# Altium schematic symbol library RPSLib_Opto.SchLib: 7 symbols
Pins are listed as number, name and electrical type; pins without a type are passive.

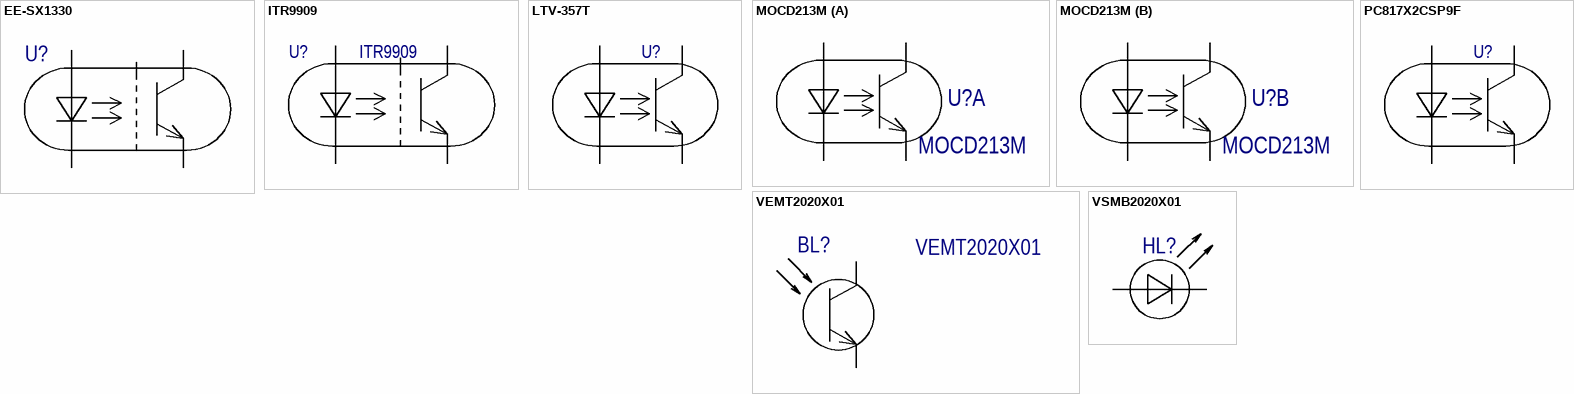
[diagram p0: symbols EE-SX1330 to VSMB2020X01]

## EE-SX1330
designator U?  (value not drawn)
Photointerrupter Transmissive Phototransistor 4-Pin SMD T/R; Manufacturer: Omron; Supplier 1: Digi-Key; Manufacturer Part Number: EE-SX1330; RoHS: No; Category: Optical Sensors; Stock 1: 50386; Pricing 1: 1=1,46000, 5=1,40400, 10=1,14100, 25=0,98320, 50=0,85140, 100=0,77250, 500=0,64958 (USD); ComponentLink1URL: https://media.digikey.com/pdf/Data%20Sheets/Omron%20PDFs/EE-SX1320,1330,4320_Intro.pdf?src-supplier=Digi-Key; ComponentLink1Description: https://media.digikey.com/pdf/Data%20Sheets/Omron%20PDFs/EE-SX1320,1330,4320_Intro.pdf?src-supplier=Digi-Key; ComponentLink2URL: https://omronfs.omron.com/en_US/ecb/products/pdf/en-ee_sx1330.pdf?src-supplier=Digi-Key; ComponentLink2Description: https://omronfs.omron.com/en_US/ecb/products/pdf/en-ee_sx1330.pdf?src-supplier=Digi-Key; Supplier Part Number 1: Z6364CT-ND
footprint EE_SX1330 (Photointerrupter)
pins: 1, 2, 3, 4

## ITR9909
designator U?
50mA DIP-4 Reflective Optical Interrupters ROHS; Manufacturer: Everlight; Description: OPTO INTERRUPTER; Manufacturer Part Number: ITR9909; RoHS: Yes; Pricing 1: 450=0,36393, 750=0,35881, 1200=0,34855, 2250=0,34087, 4500=0,32805, 22500=0,32036, 45000=0,31267 (USD); ComponentLink1URL: https://datasheet.ciiva.com/16442/itr9909-16442496.pdf?src-supplier=Future+Electronics; ComponentLink1Description: https://datasheet.ciiva.com/16442/itr9909-16442496.pdf?src-supplier=Future+Electronics; ComponentLink2URL: https://datasheet.ciiva.com/26812/getdatasheetpartid-248526-26812294.pdf?src-supplier=Verical; ComponentLink2Description: https://datasheet.ciiva.com/26812/getdatasheetpartid-248526-26812294.pdf?src-supplier=Verical; ComponentLink3URL: https://datasheet.ciiva.com/12090/itr9909-48794-12090455.pdf?src-supplier=Mouser; ComponentLink3Description: https://datasheet.ciiva.com/12090/itr9909-48794-12090455.pdf?src-supplier=Mouser; ComponentLink4URL: https://datasheet.ciiva.com/2824/itr9909-2824005.pdf?src-supplier=Digi-Key; ComponentLink4Description: https://datasheet.ciiva.com/2824/itr9909-2824005.pdf?src-supplier=Digi-Key; Supplier Part Number 1: C53399; Supplier 1: LCSC
footprint ITR9909 (DIP-4 Reflective Optical Interrupters)
pins: 1, 2, 3, 4

## LTV-357T
designator U?  (value not drawn)
OPTOISOLATOR 3.75KV TRANS 4-SOP; Manufacturer: Vishay Lite-On; Rise Time: 18000ns; Forward Voltage: 1.4V; Forward Current: 50mA; Collector Emitter Voltage (VCEO): 35V; Collector Emitter Saturation Voltage: 200mV; Number of Elements: 1; Power Dissipation: 170mW; Reverse Breakdown Voltage: 6V; Current Transfer Ratio: 600%; Input Type: DC; Max Output Voltage: 80V; Manufacturer Part Number: LTV-357T; RoHS: Yes; Category: Optocouplers; Stock 1: *; Pricing 1: *; Mount: Surface Mount; Case/Package: SMD/SMT; Number of Pins: 4; Min Operating Temperature: -55°C; Max Operating Temperature: 110°C; Fall Time: 18000ns; Max Power Dissipation: 170mW; Max Collector Current: 50mA; Max Input Current: 50mA; Number of Channels: 1; Packaging: Tape and Reel; Output Current per Channel: 50mA; Isolation Voltage: 3.75kV; Number of Circuits: 1; Output Voltage: 80V; Series: -; Collector-emitter Voltage-Max: 200mV; Isolation Voltage-Max: 3.75kV; Package Quantity: 750; Length: 3.6mm; Width: 4.4mm; Height: 2mm; Radiation Hardening: No; RoHS Compliant: Yes; Lead Free: Lead Free; ComponentLink1URL: https://datasheet.ciiva.com/2086/ltv-356t-2086199.pdf?src-supplier=Digi-Key; ComponentLink1Description: https://datasheet.ciiva.com/2086/ltv-356t-2086199.pdf?src-supplier=Digi-Key; ComponentLink2URL: https://datasheet.ciiva.com/11771/0900766b80de6af0-11771730.pdf?src-supplier=RSComponents; ComponentLink2Description: https://datasheet.ciiva.com/11771/0900766b80de6af0-11771730.pdf?src-supplier=RSComponents; ComponentLink3URL: https://datasheet.ciiva.com/16216/ltv-356t-16216247.pdf?src-supplier=Future+Electronics; ComponentLink3Description: https://datasheet.ciiva.com/16216/ltv-356t-16216247.pdf?src-supplier=Future+Electronics; ComponentLink4URL: https://datasheet.ciiva.com/15118/getdatasheetpartid-214494-15118908.pdf?src-supplier=Verical; ComponentLink4Description: https://datasheet.ciiva.com/15118/getdatasheetpartid-214494-15118908.pdf?src-supplier=Verical; ComponentLink5URL: https://datasheet.ciiva.com/2086/s-110-ltv-356t20140520-2086200.pdf?src-supplier=Digi-Key; ComponentLink5Description: https://datasheet.ciiva.com/2086/s-110-ltv-356t20140520-2086200.pdf?src-supplier=Digi-Key; ComponentLink6URL: https://datasheet.ciiva.com/2086/s-110-ltv-356t20140520-2086201.pdf?src-supplier=Digi-Key; ComponentLink6Description: https://datasheet.ciiva.com/2086/s-110-ltv-356t20140520-2086201.pdf?src-supplier=Digi-Key; ComponentLink7URL: https://datasheet.ciiva.com/12243/ltv-356tseries-1308-301539-12243030.pdf?src-supplier=Mouser; ComponentLink7Description: https://datasheet.ciiva.com/12243/ltv-356tseries-1308-301539-12243030.pdf?src-supplier=Mouser; Supplier 1: LCSC; Supplier Part Number 1: C119091
footprint SOP254P680X220-4N (SOP, 4-Leads, Body 3,80x4,40mm, Pitch 2,54mm, IPC Medium Density)
pins: 1, 2, 3, 4

## MOCD213M
designator U?
OPTOISO 2.5KV 2CH TRANS 8SOIC; Manufacturer: ON Semiconductor / Fairchild; Collector Emitter Voltage (VCEO): 400mV; Number of Channels: 2; Forward Voltage: 1.55V; Max Output Voltage: 70V; Output Current per Channel: 150mA; Max Power Dissipation: 250mW; Rise Time: 1.6us; Reverse Breakdown Voltage: 6V; Forward Current: 60mA; Fall Time: 2.2us; Input Current: 30mA; Supplier 1: Digi-Key; Manufacturer Part Number: MOCD213M; RoHS: Yes; Category: Optocouplers; Stock 1: 2278; Pricing 1: 1=1,10000, 10=0,89700, 100=0,55200, 500=0,46920, 1000=0,38640 (USD); Mount: Surface Mount; Case/Package: SOIC; Number of Pins: 8; Weight: 0.252g; Min Operating Temperature: -40°C; Max Operating Temperature: 100°C; Packaging: Rail/Tube; Package Quantity: 3000; Max Collector Current: 150mA; Collector Emitter Saturation Voltage: 400mV; Reverse Voltage (DC): 6V; Isolation Voltage: 2.5kV; Max Input Current: 60mA; Number of Elements: 2; Power Dissipation: 250mW; Voltage Rating (DC): 70V; Number of Circuits: 2; Length: 5.13mm; Height: 3.43mm; Width: 4.16mm; Radiation Hardening: No; REACH SVHC: No SVHC; Lead Free: Lead Free; ComponentLink1URL: https://datasheet.ciiva.com/15118/getdatasheetpartid-117305-15118684.pdf?src-supplier=Verical; ComponentLink1Description: https://datasheet.ciiva.com/15118/getdatasheetpartid-117305-15118684.pdf?src-supplier=Verical; ComponentLink2URL: https://datasheet.ciiva.com/8095/mocd213m-8095675.pdf?src-supplier=Avnet; ComponentLink2Description: https://datasheet.ciiva.com/8095/mocd213m-8095675.pdf?src-supplier=Avnet; ComponentLink3URL: https://datasheet.ciiva.com/26124/mocd213m-26124421.pdf?src-supplier=Avnet+Europe; ComponentLink3Description: https://datasheet.ciiva.com/26124/mocd213m-26124421.pdf?src-supplier=Avnet+Europe; Supplier Part Number 1: MOCD213M-ND
footprint SOIC127P590X350-8N (SOIC, 8-Leads, Body 4,88x3,91mm, Pitch 1,27mm, IPC Medium Density)
part A pins: 1, 2, 7, 8
part B pins: 3, 4, 5, 6

## PC817X2CSP9F
designator U?  (value not drawn)
SOP-4 Viso=5000Vrms VF(typ)=1.2V IF=50mA Vo=80V; Manufacturer: Sharp; Supplier 1: LCSC; Manufacturer Part Number: PC817X2CSP9F; RoHS: No; Pricing 1: *; Supplier Part Number 1: C66405
footprint SOP254P1020X400-4N (SOP, 4-Leads, Body 4,60x6,50mm, Pitch 2,54mm, IPC Medium Density)
pins: 1, 2, 3, 4

## VEMT2020X01
designator BL?
VISHAY SEMICONDUCTOR   VEMT2020X01   TRANSISTOR, PHOTO, NPN, 860NM, SMD; Lens Color: Black; Power Consumption: 100mW; Viewing Angle: 15°; Number of Channels: 1; Collector Emitter Voltage (VCEO): 7V; Max Collector Current: 50mA; Collector Emitter Breakdown Voltage: 20V; Collector Emitter Saturation Voltage: 400mV; Lens Style: Domed; Dark Current: 100nA; Supplier 1: Digi-Key; Manufacturer: Vishay; Manufacturer Part Number: VEMT2020X01; Stock 1: 215399; Pricing 1: 1=0,88000, 10=0,68700, 100=0,44180, 500=0,37306, 1000=0,29453, 2500=0,27489 (USD); RoHS: Yes; Mount: Surface Mount; Case/Package: SMD/SMT; Number of Pins: 2; Min Operating Temperature: -40°C; Max Operating Temperature: 100°C; Wavelength: 860nm; Package Quantity: 6000; Packaging: Tape and Reel; Max Power Dissipation: 100mW; Max Breakdown Voltage: 20V; Polarity: NPN; Number of Elements: 1; Power Dissipation: 100mW; Orientation: Top View; Length: 2.3mm; Height: 2.77mm; Width: 2.3mm; Radiation Hardening: No; REACH SVHC: Unknown; Lead Free: Lead Free; ComponentLink1URL: https://datasheet.ciiva.com/1249/485099-1249696.pdf?src-supplier=Element14; ComponentLink1Description: https://datasheet.ciiva.com/1249/485099-1249696.pdf?src-supplier=Element14; ComponentLink2URL: https://datasheet.ciiva.com/2820/vemt2000-2820704.pdf?src-supplier=Digi-Key; ComponentLink2Description: https://datasheet.ciiva.com/2820/vemt2000-2820704.pdf?src-supplier=Digi-Key; ComponentLink3URL: https://datasheet.ciiva.com/11772/0900766b80de2cdd-11772657.pdf?src-supplier=RSComponents; ComponentLink3Description: https://datasheet.ciiva.com/11772/0900766b80de2cdd-11772657.pdf?src-supplier=RSComponents; ComponentLink4URL: https://datasheet.ciiva.com/4697/vemt2000-79445-4697422.pdf?src-supplier=Mouser; ComponentLink4Description: https://datasheet.ciiva.com/4697/vemt2000-79445-4697422.pdf?src-supplier=Mouser; ComponentLink5URL: https://datasheet.ciiva.com/4270/vemt2000-4270344.pdf?src-supplier=Arrow; ComponentLink5Description: https://datasheet.ciiva.com/4270/vemt2000-4270344.pdf?src-supplier=Arrow; ComponentLink6URL: https://datasheet.ciiva.com/2820/vemt2000-2820705.pdf?src-supplier=Digi-Key; ComponentLink6Description: https://datasheet.ciiva.com/2820/vemt2000-2820705.pdf?src-supplier=Digi-Key; ComponentLink7URL: https://datasheet.ciiva.com/2820/vemt2000-2820706.pdf?src-supplier=Digi-Key; ComponentLink7Description: https://datasheet.ciiva.com/2820/vemt2000-2820706.pdf?src-supplier=Digi-Key; ComponentLink8URL: https://datasheet.ciiva.com/1250/485099-1250007.pdf?src-supplier=Element14; ComponentLink8Description: https://datasheet.ciiva.com/1250/485099-1250007.pdf?src-supplier=Element14; ComponentLink9URL: https://datasheet.ciiva.com/8271/vemt2000-8271036.pdf?src-supplier=Avnet; ComponentLink9Description: https://datasheet.ciiva.com/8271/vemt2000-8271036.pdf?src-supplier=Avnet; ComponentLink10URL: https://datasheet.ciiva.com/22696/485099-22696188.pdf?src-supplier=Element14; ComponentLink10Description: https://datasheet.ciiva.com/22696/485099-22696188.pdf?src-supplier=Element14; ComponentLink11URL: https://datasheet.ciiva.com/16511/vemt2000-16511768.pdf?src-supplier=Future+Electronics; ComponentLink11Description: https://datasheet.ciiva.com/16511/vemt2000-16511768.pdf?src-supplier=Future+Electronics; ComponentLink12URL: https://datasheet.ciiva.com/26165/vemt2000-26165182.pdf?src-supplier=Avnet+Europe; ComponentLink12Description: https://datasheet.ciiva.com/26165/vemt2000-26165182.pdf?src-supplier=Avnet+Europe; Supplier Part Number 1: VEMT2020X01CT-ND
footprint VEMT2020X01 (Phototransistor 2.3x2.3, 2.8 height)
pins: 1 C, 2 E

## VSMB2020X01
designator HL?  (value not drawn)
VISHAY   VSMB2020X01   Infrared Emitter, High Speed, 100 mA, 15 ns, 15 ns, 12 , 1.35 V, -40 C; Lens Style: Diffused,Colorless,Circular,Dome; Viewing Angle: 24°; Wavelength: 940nm; Forward Current: 100mA; Forward Voltage: 1.35V; Power Rating: 160mW; Number of LEDs: 1; Reverse Voltage: 5V; Rise Time: 15ns; Supplier 1: Digi-Key; Manufacturer: Vishay; Manufacturer Part Number: VSMB2020X01; Stock 1: 17283; Pricing 1: 1=0,83000, 10=0,64300, 100=0,41340, 500=0,34912, 1000=0,27563, 2500=0,25725 (USD); RoHS: Yes; Mount: Surface Mount; Case/Package: SMD/SMT; Number of Pins: 2; Contact Plating: Tin; Min Operating Temperature: -40°C; Max Operating Temperature: 85°C; Package Quantity: 1; Packaging: Tape and Reel; Power Dissipation: 160mW; Orientation: Top View; Operating Supply Voltage: 1.35V; Fall Time: 15ns; Test Current: 100mA; Number of Elements: 1; Max Power Dissipation: 160mW; Length: 2.3mm; Depth: 2.3mm; Radiation Hardening: No; Lead Free: Lead Free; REACH SVHC: Unknown; ComponentLink1URL: https://datasheet.ciiva.com/26218/vsmb2000-26218672.pdf?src-supplier=Avnet+Europe; ComponentLink1Description: https://datasheet.ciiva.com/26218/vsmb2000-26218672.pdf?src-supplier=Avnet+Europe; ComponentLink2URL: https://datasheet.ciiva.com/11769/0900766b80dea1a2-11769941.pdf?src-supplier=RSComponents; ComponentLink2Description: https://datasheet.ciiva.com/11769/0900766b80dea1a2-11769941.pdf?src-supplier=RSComponents; ComponentLink3URL: https://datasheet.ciiva.com/1234/485140-1234369.pdf?src-supplier=Element14; ComponentLink3Description: https://datasheet.ciiva.com/1234/485140-1234369.pdf?src-supplier=Element14; ComponentLink4URL: https://datasheet.ciiva.com/2107/vsmb2000-2107508.pdf?src-supplier=Digi-Key; ComponentLink4Description: https://datasheet.ciiva.com/2107/vsmb2000-2107508.pdf?src-supplier=Digi-Key; ComponentLink5URL: https://datasheet.ciiva.com/2107/vsmb2000-2107509.pdf?src-supplier=Digi-Key; ComponentLink5Description: https://datasheet.ciiva.com/2107/vsmb2000-2107509.pdf?src-supplier=Digi-Key; ComponentLink6URL: https://datasheet.ciiva.com/2107/vsmb2000-2107510.pdf?src-supplier=Digi-Key; ComponentLink6Description: https://datasheet.ciiva.com/2107/vsmb2000-2107510.pdf?src-supplier=Digi-Key; ComponentLink7URL: https://datasheet.ciiva.com/3161/vsmb2000-3161449.pdf?src-supplier=Avnet; ComponentLink7Description: https://datasheet.ciiva.com/3161/vsmb2000-3161449.pdf?src-supplier=Avnet; ComponentLink8URL: https://datasheet.ciiva.com/16500/vsmb2000-16500555.pdf?src-supplier=Future+Electronics; ComponentLink8Description: https://datasheet.ciiva.com/16500/vsmb2000-16500555.pdf?src-supplier=Future+Electronics; ComponentLink9URL: https://datasheet.ciiva.com/4670/vsmb2000-244751-4670605.pdf?src-supplier=Mouser; ComponentLink9Description: https://datasheet.ciiva.com/4670/vsmb2000-244751-4670605.pdf?src-supplier=Mouser; Supplier Part Number 1: VSMB2020X01CT-ND
footprint VSMB2020X01 (IR LED 2.3x2.3, 2.8 height)
pins: 1 C, 2 A
1 alternate drawing of the same symbol